# Altium footprint library Conn.Misc.PcbLib: 57 footprints (part 1 of 4)
Each footprint in its own frame and in the unit in brackets; x right, y up, seen from the top. Pads: shape width x height; smd on the part's side, far side on the other; paste and mask are expansions set on the pad; w line width, h text height; cw(c..) or ccw(c..) is an arc to the next point about the centre after c.
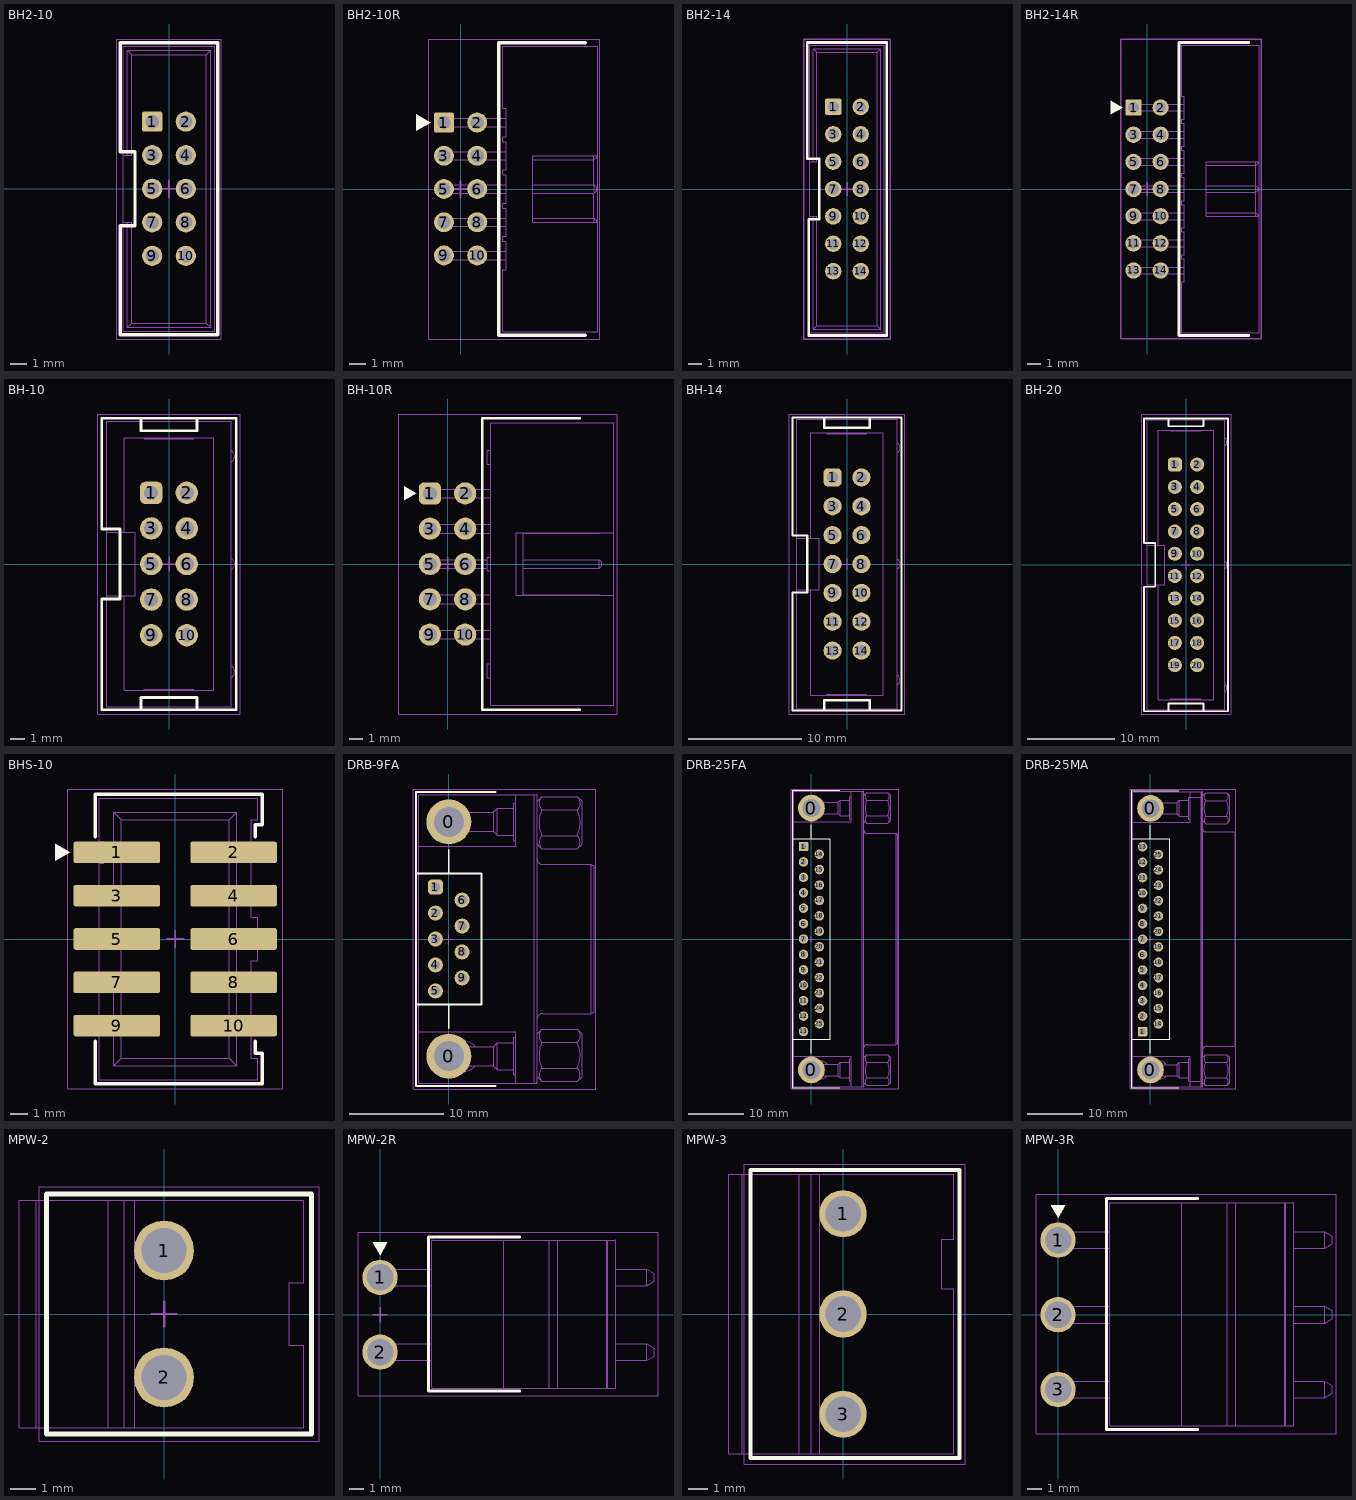
[diagram p0: the footprints below, top view; thin cyan lines are the x and y axes]

## BH2-10 [mm] "BH2 Header, 10-Pin, 2.00mm Pitch"
height 5.7
pads (10):
  rrect20% 1.2x1.2 hole 0.8: 1(-1,4)
  round 1.2 hole 0.8: 2(1,4) 3(-1,2) 4(1,2) 5(-1,0) 6(1,0) 7(-1,-2) 8(1,-2) 9(-1,-4) 10(1,-4)
Top Overlay:
  lines w0.2: -2.9,-8.7 2.9,-8.7 2.9,8.7 -2.9,8.7 -2.9,2.2 -2.025,2.2 -2.025,-2.2 -2.9,-2.2 -2.9,-8.7
Bottom Overlay:
  region: -1.8,4 -2.666,3.5 -2.666,4.5
Mechanical 1:
  lines w0.05: -2.725,-2 -2.225,-2 -2.225,-8 ; -2.725,2 -2.225,2 -2.225,8 ; -2.475,-2 -2.475,-8.25 ; -2.475,2 -2.475,8.25 ; -2.475,-8.25 2.475,-8.25 ; -2.475,-8.25 -2.225,-8 ; -2.475,8.25 -2.225,8 ; -2.475,8.25 2.475,8.25 ; -2.225,-8 2.225,-8 ; -2.225,8 2.225,8 ; -1.25,-4.25 -1.25,-3.75 ; -1.25,-4.25 -1.1,-4.1 ; -1.25,-4.25 -0.75,-4.25 ; -1.25,-3.75 -1.1,-3.9 ; -1.25,-3.75 -0.75,-3.75 ; -1.25,-2.25 -0.75,-2.25 ; -1.25,-2.25 -1.25,-1.75 ; -1.25,-2.25 -1.1,-2.1 ; -1.25,-1.75 -0.75,-1.75 ; -1.25,-1.75 -1.1,-1.9 ; -1.25,-0.25 -0.75,-0.25 ; -1.25,-0.25 -1.25,0.25 ; -1.25,-0.25 -1.1,-0.1 ; -1.25,0.25 -0.75,0.25 ; -1.25,0.25 -1.1,0.1 ; -1.25,1.75 -1.25,2.25 ; -1.25,1.75 -1.1,1.9 ; -1.25,1.75 -0.75,1.75 ; -1.25,2.25 -0.75,2.25 ; -1.25,2.25 -1.1,2.1 ; -1.25,3.75 -0.75,3.75 ; -1.25,3.75 -1.25,4.25 ; -1.25,3.75 -1.1,3.9 ; -1.25,4.25 -1.1,4.1 ; -1.25,4.25 -0.75,4.25 ; -1.1,-4.1 -1.1,-3.9 ; -1.1,-4.1 -0.9,-4.1 ; -1.1,-3.9 -0.9,-3.9 ; -1.1,-2.1 -0.9,-2.1 ; -1.1,-2.1 -1.1,-1.9 ; -1.1,-1.9 -0.9,-1.9 ; -1.1,-0.1 -0.9,-0.1 ; -1.1,-0.1 -1.1,0.1 ; -1.1,0.1 -0.9,0.1 ; -1.1,1.9 -1.1,2.1 ; -1.1,1.9 -0.9,1.9 ; -1.1,2.1 -0.9,2.1 ; -1.1,3.9 -0.9,3.9 ; -1.1,3.9 -1.1,4.1 ; -1.1,4.1 -0.9,4.1 ; -0.9,-4.1 -0.75,-4.25 ; -0.9,-4.1 -0.9,-3.9 ; -0.9,-3.9 -0.75,-3.75 ; -0.9,-2.1 -0.9,-1.9 ; -0.9,-2.1 -0.75,-2.25 ; -0.9,-1.9 -0.75,-1.75 ; -0.9,-0.1 -0.9,0.1 ; -0.9,-0.1 -0.75,-0.25 ; -0.9,0.1 -0.75,0.25 ; -0.9,1.9 -0.9,2.1 ; -0.9,1.9 -0.75,1.75 ; -0.9,2.1 -0.75,2.25 ; -0.9,3.9 -0.9,4.1 ; -0.9,3.9 -0.75,3.75 ; -0.9,4.1 -0.75,4.25 ; -0.75,-4.25 -0.75,-3.75 ; -0.75,-2.25 -0.75,-1.75 ; -0.75,-0.25 -0.75,0.25 ; -0.75,1.75 -0.75,2.25 ; -0.75,3.75 -0.75,4.25 ; 0.75,-4.25 0.75,-3.75 ; 0.75,-4.25 0.9,-4.1 ; 0.75,-4.25 1.25,-4.25 ; 0.75,-3.75 1.25,-3.75 ; 0.75,-3.75 0.9,-3.9 ; 0.75,-2.25 0.75,-1.75 ; 0.75,-2.25 0.9,-2.1 ; 0.75,-2.25 1.25,-2.25 ; 0.75,-1.75 1.25,-1.75 ; 0.75,-1.75 0.9,-1.9 ; 0.75,-0.25 1.25,-0.25 ; 0.75,-0.25 0.75,0.25 ; 0.75,-0.25 0.9,-0.1 ; 0.75,0.25 1.25,0.25 ; 0.75,0.25 0.9,0.1 ; 0.75,1.75 0.75,2.25 ; 0.75,1.75 0.9,1.9 ; 0.75,1.75 1.25,1.75 ; 0.75,2.25 0.9,2.1 ; 0.75,2.25 1.25,2.25 ; 0.75,3.75 1.25,3.75 ; 0.75,3.75 0.75,4.25 ; 0.75,3.75 0.9,3.9 ; 0.75,4.25 1.25,4.25 ; 0.75,4.25 0.9,4.1 ; 0.9,-4.1 0.9,-3.9 ; 0.9,-4.1 1.1,-4.1 ; 0.9,-3.9 1.1,-3.9 ; 0.9,-2.1 0.9,-1.9 ; 0.9,-2.1 1.1,-2.1 ; 0.9,-1.9 1.1,-1.9 ; 0.9,-0.1 0.9,0.1 ; 0.9,-0.1 1.1,-0.1 ; 0.9,0.1 1.1,0.1 ; 0.9,1.9 0.9,2.1 ; 0.9,1.9 1.1,1.9 ; 0.9,2.1 1.1,2.1 ; 0.9,3.9 1.1,3.9 ; 0.9,3.9 0.9,4.1 ; 0.9,4.1 1.1,4.1 ; 1.1,-4.1 1.1,-3.9 ; 1.1,-4.1 1.25,-4.25 ; 1.1,-3.9 1.25,-3.75 ; 1.1,-2.1 1.25,-2.25 ; 1.1,-2.1 1.1,-1.9 ; 1.1,-1.9 1.25,-1.75 ; 1.1,-0.1 1.25,-0.25 ; 1.1,-0.1 1.1,0.1 ; 1.1,0.1 1.25,0.25 ; 1.1,1.9 1.1,2.1 ; 1.1,1.9 1.25,1.75 ; 1.1,2.1 1.25,2.25 ; 1.1,3.9 1.1,4.1 ; 1.1,3.9 1.25,3.75 ; 1.1,4.1 1.25,4.25 ; 1.25,-4.25 1.25,-3.75 ; 1.25,-2.25 1.25,-1.75 ; 1.25,-0.25 1.25,0.25 ; 1.25,1.75 1.25,2.25 ; 1.25,3.75 1.25,4.25 ; 2.225,-8 2.225,8 ; 2.225,-8 2.475,-8.25 ; 2.225,8 2.475,8.25 ; 2.475,-8.25 2.475,8.25 ; -2.725,-8.5 -2.725,8.5 2.725,8.5 2.725,-8.5 -2.725,-8.5
Mechanical 15:
  lines w0.05: -3.125,-8.95 3.125,-8.95 3.125,8.925 -3.125,8.925 -3.125,-8.95
  lines w0.1: -0.5,0 0.5,0 ; 0,-0.5 0,0.5
3D body "BH2-10.STEP": height 5.65, standoff -3.6, extent -2.725,-8.5 2.725,8.5

## BH2-10R [mm] "BH2 Header, 10-Pin, 2.00mm Pitch, Angled"
height 5.6
pads (10):
  rrect20% 1.2x1.2 hole 0.8: 1(-1,4)
  round 1.2 hole 0.8: 2(1,4) 3(-1,2) 4(1,2) 5(-1,0) 6(1,0) 7(-1,-2) 8(1,-2) 9(-1,-4) 10(1,-4)
Top Overlay:
  region: -1.8,4 -2.666,4.5 -2.666,3.5
  lines w0.2: 7.5,-8.8 2.3,-8.8 2.3,8.8 7.5,8.8
Mechanical 1:
  lines w0.05: -0.5,-4.25 -0.5,-3.75 ; -0.5,-2.25 -0.5,-1.75 ; -0.5,-0.25 -0.5,0.25 ; -0.5,1.75 -0.5,2.25 ; -0.5,3.75 -0.5,4.25 ; 2.75,-4.25 -1.25,-4.25 -1.25,-3.75 2.75,-3.75 ; 2.75,-2.25 -1.25,-2.25 -1.25,-1.75 2.75,-1.75 ; 2.75,-0.25 -1.25,-0.25 -1.25,0.25 2.75,0.25 ; 2.75,1.75 -1.25,1.75 -1.25,2.25 2.75,2.25 ; 2.75,3.75 -1.25,3.75 -1.25,4.25 2.75,4.25 ; 4.35,-1.75 8.021,-1.75 ; 4.35,-0.25 8.021,-0.25 ; 4.35,0.25 8.021,0.25 ; 4.35,1.75 8.021,1.75 ; 8,-1.75 8,-0.25 ; 8,0.25 8,1.75 ; 8.021,-2 8.021,-1.75 ; 8.021,2 8.021,1.75 ; 8.2,-2 8.2,-1.9 8.021,-1.75 ; 8.2,2 8.2,1.9 8.021,1.75 ; 8.25,-2 4.35,-2 4.35,2 8.25,2 ; 8.021,-0.25 8.2,-0.1 8.2,0.1 8.021,0.25 ; 8.021,-0.25 8.021,0.25 ; 2.55,-8.6 8.25,-8.6 8.25,8.6 2.55,8.6 2.55,4.85 2.75,4.85 2.75,3.15 2.55,3.15 2.55,2.85 2.75,2.85 2.75,1.15 2.55,1.15 2.55,0.85 2.75,0.85 2.75,-0.85 2.55,-0.85 2.55,-1.15 2.75,-1.15 2.75,-2.85 2.55,-2.85 2.55,-3.15 2.75,-3.15 2.75,-4.85 2.55,-4.85 2.55,-8.6
Mechanical 15:
  lines w0.05: -1.925,-9.025 8.375,-9.025 8.375,9.025 -1.925,9.025 -1.925,-9.025
  lines w0.1: -0.5,0 0.5,0 ; 0,-0.5 0,0.5
3D body "BH2-10R.STEP": height 5.6, standoff -2.9, extent -1.25,-8.6 8.25,8.6

## BH2-14 [mm] "BH2 Header, 14-Pin, 2.00mm Pitch"
height 5.7
pads (14):
  rrect20% 1.2x1.2 hole 0.8: 1(-1,6)
  round 1.2 hole 0.8: 2(1,6) 3(-1,4) 4(1,4) 5(-1,2) 6(1,2) 7(-1,0) 8(1,0) 9(-1,-2) 10(1,-2) 11(-1,-4) 12(1,-4) 13(-1,-6) 14(1,-6)
Top Overlay:
  lines w0.2: -2.9,2.2 -2.9,10.7 2.9,10.7 2.9,-10.7 -2.8,-10.7 -2.8,-2.2 -2.025,-2.2 -2.025,2.2 -2.9,2.2
Bottom Overlay:
  region: -1.8,6 -2.666,5.5 -2.666,6.5
Mechanical 1:
  drawing of 188 lines, arcs and shapes, not listed
Mechanical 15:
  lines w0.1: -0.5,0 0.5,0 ; 0,-0.5 0,0.5 ; -3.15,-10.95 -3.15,10.95 3.15,10.95 3.15,-10.95 -3.15,-10.95
3D body "BH2-14.STEP": height 5.65, standoff -3.6, extent -2.725,-10.5 2.725,10.5

## BH2-14R [mm] "BH2 Header, 14-Pin, 2.00mm Pitch, Angled"
height 5.6
pads (14):
  rrect20% 1.2x1.2 hole 0.8: 1(-1,6)
  round 1.2 hole 0.8: 2(1,6) 3(-1,4) 4(1,4) 5(-1,2) 6(1,2) 7(-1,0) 8(1,0) 9(-1,-2) 10(1,-2) 11(-1,-4) 12(1,-4) 13(-1,-6) 14(1,-6)
Top Overlay:
  region: -1.8,6 -2.666,6.5 -2.666,5.5
  lines w0.2: 7.5,-10.8 2.35,-10.8 2.35,10.8 7.5,10.8
Mechanical 1:
  lines w0.05: -0.5,-6.25 -0.5,-5.75 ; -0.5,-4.25 -0.5,-3.75 ; -0.5,-2.25 -0.5,-1.75 ; -0.5,-0.25 -0.5,0.25 ; -0.5,1.75 -0.5,2.25 ; -0.5,3.75 -0.5,4.25 ; -0.5,5.75 -0.5,6.25 ; 2.75,-6.25 -1.25,-6.25 -1.25,-5.75 2.75,-5.75 ; 2.75,-4.25 -1.25,-4.25 -1.25,-3.75 2.75,-3.75 ; 2.75,-2.25 -1.25,-2.25 -1.25,-1.75 2.75,-1.75 ; 2.75,-0.25 -1.25,-0.25 -1.25,0.25 2.75,0.25 ; 2.75,1.75 -1.25,1.75 -1.25,2.25 2.75,2.25 ; 2.75,3.75 -1.25,3.75 -1.25,4.25 2.75,4.25 ; 2.75,5.75 -1.25,5.75 -1.25,6.25 2.75,6.25 ; 4.35,-1.75 8.021,-1.75 ; 4.35,-0.25 8.021,-0.25 ; 4.35,0.25 8.021,0.25 ; 4.35,1.75 8.021,1.75 ; 8,-1.75 8,-0.25 ; 8,0.25 8,1.75 ; 8.021,-2 8.021,-1.75 ; 8.021,2 8.021,1.75 ; 8.2,-2 8.2,-1.9 8.021,-1.75 ; 8.2,2 8.2,1.9 8.021,1.75 ; 8.25,-2 4.35,-2 4.35,2 8.25,2 ; 8.021,-0.25 8.2,-0.1 8.2,0.1 8.021,0.25 ; 8.021,-0.25 8.021,0.25 ; 2.55,-10.6 2.55,-6.85 2.75,-6.85 2.75,-5.15 2.55,-5.15 2.55,-4.85 2.75,-4.85 2.75,-3.15 2.55,-3.15 2.55,-2.85 2.75,-2.85 2.75,-1.15 2.55,-1.15 2.55,-0.85 2.75,-0.85 2.75,0.85 2.55,0.85 2.55,1.15 2.75,1.15 2.75,2.85 2.55,2.85 2.55,3.15 2.75,3.15 2.75,4.85 2.55,4.85 2.55,5.15 2.75,5.15 2.75,6.85 2.55,6.85 2.55,10.6 8.25,10.6 8.25,-10.6 2.55,-10.6
Mechanical 15:
  lines w0.1: -0.5,0 0.5,0 ; 0,-0.5 0,0.5 ; -1.95,-11.05 -1.95,11.05 8.4,11.05 8.4,-11.05 -1.95,-11.05
3D body "BH2-14R.STEP": height 5.6, standoff -2.9, extent -1.25,-10.6 8.25,10.6

## BH-10 [mm] "BH Header, 10-Pin, 2.54mm Pitch"
height 9.3
pads (10):
  rrect50% 1.6x1.6 hole 1: 1(-1.27,5.08)
  round 1.6 hole 1: 2(1.27,5.08) 3(-1.27,2.54) 4(1.27,2.54) 5(-1.27,0) 6(1.27,0) 7(-1.27,-2.54) 8(1.27,-2.54) 9(-1.27,-5.08) 10(1.27,-5.08)
Top Overlay:
  lines w0.2: -2,-10.4 -2,-9.525 2,-9.525 2,-10.4 ; -2,10.4 -2,9.5 2,9.5 2,10.4 ; -4.8,-10.4 4.8,-10.4 4.8,10.4 -4.8,10.4 -4.8,2.5 -3.5,2.5 -3.5,-2.5 -4.8,-2.5 -4.8,-10.4
Bottom Overlay:
  region: -2.27,5.08 -3.136,4.58 -3.136,5.58
Mechanical 1:
  lines w0.05: -4.425,-2.25 -2.425,-2.25 -2.425,2.25 -4.425,2.25 ; -3.175,-2.25 -3.175,-9.02 3.175,-9.02 3.175,9.02 -3.175,9.02 -3.175,2.25 ; -1.75,-9.02 -1.75,-8.93 1.75,-8.93 1.75,-9.02 ; -1.75,9.02 -1.75,8.93 1.75,8.93 1.75,9.02 ; 4.425,-8.113 ccw(c4.175,-7.68) 4.425,-7.247 ; 4.425,-0.433 ccw(c4.175,0) 4.425,0.433 ; 4.425,7.247 ccw(c4.175,7.68) 4.425,8.113 ; -1.59,-5.4 -0.95,-5.4 ; -1.59,-5.4 -1.59,-4.76 ; -1.59,-5.4 -1.39,-5.2 ; -1.59,-4.76 -0.95,-4.76 ; -1.59,-4.76 -1.39,-4.96 ; -1.59,-2.86 -0.95,-2.86 ; -1.59,-2.86 -1.59,-2.22 ; -1.59,-2.86 -1.39,-2.66 ; -1.59,-2.22 -0.95,-2.22 ; -1.59,-2.22 -1.39,-2.42 ; -1.59,-0.32 -0.95,-0.32 ; -1.59,-0.32 -1.59,0.32 ; -1.59,-0.32 -1.39,-0.12 ; -1.59,0.32 -0.95,0.32 ; -1.59,0.32 -1.39,0.12 ; -1.59,2.22 -1.59,2.86 ; -1.59,2.22 -1.39,2.42 ; -1.59,2.22 -0.95,2.22 ; -1.59,2.86 -0.95,2.86 ; -1.59,2.86 -1.39,2.66 ; -1.59,4.76 -1.59,5.4 ; -1.59,4.76 -1.39,4.96 ; -1.59,4.76 -0.95,4.76 ; -1.59,5.4 -0.95,5.4 ; -1.59,5.4 -1.39,5.2 ; -1.39,-5.2 -1.39,-4.96 ; -1.39,-5.2 -1.15,-5.2 ; -1.39,-4.96 -1.15,-4.96 ; -1.39,-2.66 -1.15,-2.66 ; -1.39,-2.66 -1.39,-2.42 ; -1.39,-2.42 -1.15,-2.42 ; -1.39,-0.12 -1.39,0.12 ; -1.39,-0.12 -1.15,-0.12 ; -1.39,0.12 -1.15,0.12 ; -1.39,2.42 -1.39,2.66 ; -1.39,2.42 -1.15,2.42 ; -1.39,2.66 -1.15,2.66 ; -1.39,4.96 -1.39,5.2 ; -1.39,4.96 -1.15,4.96 ; -1.39,5.2 -1.15,5.2 ; -1.15,-5.2 -0.95,-5.4 ; -1.15,-5.2 -1.15,-4.96 ; -1.15,-4.96 -0.95,-4.76 ; -1.15,-2.66 -0.95,-2.86 ; -1.15,-2.66 -1.15,-2.42 ; -1.15,-2.42 -0.95,-2.22 ; -1.15,-0.12 -0.95,-0.32 ; -1.15,-0.12 -1.15,0.12 ; -1.15,0.12 -0.95,0.32 ; -1.15,2.42 -1.15,2.66 ; -1.15,2.42 -0.95,2.22 ; -1.15,2.66 -0.95,2.86 ; -1.15,4.96 -0.95,4.76 ; -1.15,4.96 -1.15,5.2 ; -1.15,5.2 -0.95,5.4 ; -0.95,-5.4 -0.95,-4.76 ; -0.95,-2.86 -0.95,-2.22 ; -0.95,-0.32 -0.95,0.32 ; -0.95,2.22 -0.95,2.86 ; -0.95,4.76 -0.95,5.4 ; 0.95,-5.4 1.59,-5.4 ; 0.95,-5.4 0.95,-4.76 ; 0.95,-5.4 1.15,-5.2 ; 0.95,-4.76 1.59,-4.76 ; 0.95,-4.76 1.15,-4.96 ; 0.95,-2.86 1.59,-2.86 ; 0.95,-2.86 0.95,-2.22 ; 0.95,-2.86 1.15,-2.66 ; 0.95,-2.22 1.59,-2.22 ; 0.95,-2.22 1.15,-2.42 ; 0.95,-0.32 0.95,0.32 ; 0.95,-0.32 1.15,-0.12 ; 0.95,-0.32 1.59,-0.32 ; 0.95,0.32 1.59,0.32 ; 0.95,0.32 1.15,0.12 ; 0.95,2.22 1.59,2.22 ; 0.95,2.22 0.95,2.86 ; 0.95,2.22 1.15,2.42 ; 0.95,2.86 1.59,2.86 ; 0.95,2.86 1.15,2.66 ; 0.95,4.76 0.95,5.4 ; 0.95,4.76 1.15,4.96 ; 0.95,4.76 1.59,4.76 ; 0.95,5.4 1.59,5.4 ; 0.95,5.4 1.15,5.2 ; 1.15,-5.2 1.15,-4.96 ; 1.15,-5.2 1.39,-5.2 ; 1.15,-4.96 1.39,-4.96 ; 1.15,-2.66 1.39,-2.66 ; 1.15,-2.66 1.15,-2.42 ; 1.15,-2.42 1.39,-2.42 ; 1.15,-0.12 1.39,-0.12 ; 1.15,-0.12 1.15,0.12 ; 1.15,0.12 1.39,0.12 ; 1.15,2.42 1.39,2.42 ; 1.15,2.42 1.15,2.66 ; 1.15,2.66 1.39,2.66 ; 1.15,4.96 1.15,5.2 ; 1.15,4.96 1.39,4.96 ; 1.15,5.2 1.39,5.2 ; 1.39,-5.2 1.39,-4.96 ; 1.39,-5.2 1.59,-5.4 ; 1.39,-4.96 1.59,-4.76 ; 1.39,-2.66 1.59,-2.86 ; 1.39,-2.66 1.39,-2.42 ; 1.39,-2.42 1.59,-2.22 ; 1.39,-0.12 1.59,-0.32 ; 1.39,-0.12 1.39,0.12 ; 1.39,0.12 1.59,0.32 ; 1.39,2.42 1.59,2.22 ; 1.39,2.42 1.39,2.66 ; 1.39,2.66 1.59,2.86 ; 1.39,4.96 1.39,5.2 ; 1.39,4.96 1.59,4.76 ; 1.39,5.2 1.59,5.4 ; 1.59,-5.4 1.59,-4.76 ; 1.59,-2.86 1.59,-2.22 ; 1.59,-0.32 1.59,0.32 ; 1.59,2.22 1.59,2.86 ; 1.59,4.76 1.59,5.4 ; -4.425,-10.18 -4.425,10.18 4.425,10.18 4.425,-10.18 -4.425,-10.18
Mechanical 15:
  lines w0.05: -5.1,-10.7 5.1,-10.7 5.1,10.7 -5.1,10.7 -5.1,-10.7
  lines w0.1: -0.5,0 0.5,0 ; 0,-0.5 0,0.5
3D body "IDC-Header_2x05_P2.54mm_Vertical.step": height 9.1, standoff -3, extent -4.425,-10.18 4.675,10.18

## BH-10R [mm] "BH Header, 10-Pin, 2.54mm Pitch, Right Angle"
height 9.1
pads (10):
  rrect50% 1.6x1.6 hole 1: 1(-1.27,5.08)
  round 1.6 hole 1: 2(1.27,5.08) 3(-1.27,2.54) 4(1.27,2.54) 5(-1.27,0) 6(1.27,0) 7(-1.27,-2.54) 8(1.27,-2.54) 9(-1.27,-5.08) 10(1.27,-5.08)
Top Overlay:
  region: -2.27,5.08 -3.136,5.58 -3.136,4.58
  lines w0.2: 9.5,-10.5 2.5,-10.5 2.5,10.5 9.5,10.5
Mechanical 1:
  lines w0.05: -0.95,-5.4 -0.95,-4.76 ; -0.95,-2.86 -0.95,-2.22 ; -0.95,-0.32 -0.95,0.32 ; -0.95,2.22 -0.95,2.86 ; -0.95,4.76 -0.95,5.4 ; 2.86,-0.32 -1.59,-0.32 -1.59,0.32 2.86,0.32 ; 3.11,-8.18 2.86,-8.18 2.86,-7.18 3.11,-7.18 ; 3.11,-5.4 -1.59,-5.4 -1.59,-4.76 3.11,-4.76 ; 3.11,-2.86 -1.59,-2.86 -1.59,-2.22 3.11,-2.22 ; 3.11,-0.5 2.86,-0.5 2.86,0.5 3.11,0.5 ; 3.11,2.22 -1.59,2.22 -1.59,2.86 3.11,2.86 ; 3.11,4.76 -1.59,4.76 -1.59,5.4 3.11,5.4 ; 3.11,7.18 2.86,7.18 2.86,8.18 3.11,8.18 ; 5.46,-2.25 5.46,2.25 ; 5.46,-2.22 10.91,-2.22 ; 5.46,-0.32 10.91,-0.32 ; 5.46,0.32 10.91,0.32 ; 5.46,2.22 10.91,2.22 ; 10.91,-2.25 10.91,-2.22 ; 10.91,2.25 10.91,2.22 ; 10.94,-2.25 10.91,-2.22 ; 10.94,2.25 10.91,2.22 ; 11.96,-2.25 4.96,-2.25 4.96,2.25 11.96,2.25 ; 10.91,-0.32 11.11,-0.12 11.11,0.12 10.91,0.32 ; 10.91,-0.32 10.91,0.32 ; 3.11,-10.18 3.11,10.18 11.96,10.18 11.96,-10.18 3.11,-10.18
Mechanical 15:
  lines w0.05: -3.5,-10.8 -3.5,10.8 12.2,10.8 12.2,-10.8 -3.5,-10.8
  lines w0.1: -0.5,0 0.5,0 ; 0,-0.5 0,0.5
3D body "IDC-Header_2x05_P2.54mm_Horizontal.step": height 9.1, standoff -3, extent -1.59,-10.18 11.96,10.18

## BH-14 [mm] "BH Header, 14-Pin, 2.54mm Pitch"
height 9.3
pads (14):
  rrect50% 1.6x1.6 hole 1: 1(-1.27,7.62)
  round 1.6 hole 1: 2(1.27,7.62) 3(-1.27,5.08) 4(1.27,5.08) 5(-1.27,2.54) 6(1.27,2.54) 7(-1.27,0) 8(1.27,0) 9(-1.27,-2.54) 10(1.27,-2.54) 11(-1.27,-5.08) 12(1.27,-5.08) 13(-1.27,-7.62) 14(1.27,-7.62)
Top Overlay:
  lines w0.2: -2,-12.9 -2,-12 2,-12 2,-12.9 ; -2,12.9 -2,12 2,12 2,12.9 ; -4.8,-12.9 4.8,-12.9 4.8,12.9 -4.8,12.9 -4.8,2.5 -3.5,2.5 -3.5,-2.5 -4.8,-2.5 -4.8,-12.9
Bottom Overlay:
  region: -2.27,7.62 -3.136,7.12 -3.136,8.12
Mechanical 1:
  drawing of 189 lines, arcs and shapes, not listed
Mechanical 15:
  lines w0.05: -5.1,-13.2 -5.1,13.2 5.1,13.2 5.1,-13.2 -5.1,-13.2
  lines w0.1: -0.5,0 0.5,0 ; 0,-0.5 0,0.5
3D body "IDC-Header_2x07_P2.54mm_Vertical.step": height 9.1, standoff -3, extent -4.425,-12.72 4.675,12.72

## BH-20 [mm] "BH Header, 20-Pin, 2.54mm Pitch"
height 9.3
pads (20):
  rrect50% 1.6x1.6 hole 1: 1(-1.27,11.43)
  round 1.6 hole 1: 2(1.27,11.43) 3(-1.27,8.89) 4(1.27,8.89) 5(-1.27,6.35) 6(1.27,6.35) 7(-1.27,3.81) 8(1.27,3.81) 9(-1.27,1.27) 10(1.27,1.27) 11(-1.27,-1.27) 12(1.27,-1.27) 13(-1.27,-3.81) 14(1.27,-3.81) 15(-1.27,-6.35) 16(1.27,-6.35) 17(-1.27,-8.89) 18(1.27,-8.89) 19(-1.27,-11.43) 20(1.27,-11.43)
Top Overlay:
  lines w0.2: -2,-16.7 -2,-15.8 2,-15.8 2,-16.7 ; -2,16.7 -2,15.8 2,15.8 2,16.7 ; -4.8,-16.7 -4.8,-2.5 -3.5,-2.5 -3.5,2.5 -4.8,2.5 -4.8,16.7 4.8,16.7 4.8,-16.7 -4.8,-16.7
Bottom Overlay:
  region: -2.27,11.43 -3.136,10.93 -3.136,11.93
Mechanical 1:
  drawing of 261 lines, arcs and shapes, not listed
Mechanical 15:
  lines w0.1: -0.5,0 0.5,0 ; 0,-0.5 0,0.5 ; -5.1,-17 -5.1,17.2 5.1,17.2 5.1,-17 -5.1,-17
3D body "IDC-Header_2x10_P2.54mm_Vertical.step": height 9.12, standoff -2.98, extent -4.425,-16.53 4.675,16.53

## BHS-10 [mil] "BH Header, 10-Pin, 2.54mm Pitch, Surface Mount"
height 400
pads (10):
  rrect20% 200x50 smd: 1(-135,200) 2(135,200) 3(-135,100) 4(135,100) 5(-135,0) 6(135,0) 7(-135,-100) 8(135,-100) 9(-135,-200) 10(135,-200)
Top Overlay:
  region: -242.87,200 -276.97,219.69 -276.97,180.31
  lines w7.87: -185.04,-236.22 -185.04,-334.65 200.79,-334.65 200.79,-263.78 185.04,-263.78 185.04,-236.22 ; -185.04,236.22 -185.04,334.65 200.79,334.65 200.79,263.78 185.04,263.78 185.04,236.22
Mechanical 1:
  lines w1.97: -213.75,-212.5 -213.75,-187.5 ; -213.75,-112.5 -213.75,-87.5 ; -213.75,-12.5 -213.75,12.5 ; -213.75,87.5 -213.75,112.5 ; -213.75,187.5 -213.75,212.5 ; -175,-212.5 -220,-212.5 -220,-187.5 -175,-187.5 ; -175,-112.5 -220,-112.5 -220,-87.5 -175,-87.5 ; -175,-100 -125,-100 ; -175,-12.5 -220,-12.5 -220,12.5 -175,12.5 ; -175,87.5 -220,87.5 -220,112.5 -175,112.5 ; -175,100 -125,100 ; -175,175 -165,175 -165,225 -175,225 ; -175,187.5 -220,187.5 -220,212.5 -175,212.5 ; -175,200 -165,200 ; -142.51,-100 -142.51,-292.51 ; -142.51,100 -142.51,292.51 ; -56.25,-212.5 -56.25,-187.5 ; -56.25,-112.5 -56.25,-87.5 ; -56.25,-12.5 -56.25,12.5 ; -56.25,87.5 -56.25,112.5 ; -56.25,187.5 -56.25,212.5 ; -43.75,-212.5 -43.75,-187.5 ; -43.75,-112.5 -43.75,-87.5 ; -43.75,-12.5 -43.75,12.5 ; -43.75,87.5 -43.75,112.5 ; -43.75,187.5 -43.75,212.5 ; 43.75,-212.5 43.75,-187.5 ; 43.75,-112.5 43.75,-87.5 ; 43.75,-12.5 43.75,12.5 ; 43.75,87.5 43.75,112.5 ; 43.75,187.5 43.75,212.5 ; 56.25,-212.5 56.25,-187.5 ; 56.25,-112.5 56.25,-87.5 ; 56.25,-12.5 56.25,12.5 ; 56.25,87.5 56.25,112.5 ; 56.25,187.5 56.25,212.5 ; 175,-212.5 220,-212.5 220,-187.5 175,-187.5 ; 175,-112.5 220,-112.5 220,-87.5 175,-87.5 ; 175,87.5 220,87.5 220,112.5 175,112.5 ; 175,187.5 220,187.5 220,212.5 175,212.5 ; 190,-12.5 220,-12.5 220,12.5 190,12.5 ; 213.75,-212.5 213.75,-187.5 ; 213.75,-112.5 213.75,-87.5 ; 213.75,-12.5 213.75,12.5 ; 213.75,87.5 213.75,112.5 ; 213.75,187.5 213.75,212.5 ; -142.51,-292.51 -125,-275 ; -142.51,-292.51 142.51,-292.51 ; -142.51,292.51 -125,275 ; -142.51,292.51 142.51,292.51 ; -125,-275 125,-275 ; -125,-275 -125,275 ; -125,275 125,275 ; 125,-275 125,275 ; 125,-275 142.51,-292.51 ; 125,275 142.51,292.51 ; 142.51,-292.51 142.51,292.51 ; -175,-325 -175,325 190,325 190,275 175,275 175,50 190,50 190,-50 175,-50 175,-275 190,-275 190,-325 -175,-325 ; -62.5,-212.5 -62.5,-187.5 -37.5,-187.5 -37.5,-212.5 -62.5,-212.5 ; -62.5,-112.5 -62.5,-87.5 -37.5,-87.5 -37.5,-112.5 -62.5,-112.5 ; -62.5,-12.5 -62.5,12.5 -37.5,12.5 -37.5,-12.5 -62.5,-12.5 ; -62.5,87.5 -62.5,112.5 -37.5,112.5 -37.5,87.5 -62.5,87.5 ; -62.5,187.5 -37.5,187.5 -37.5,212.5 -62.5,212.5 -62.5,187.5 ; 37.5,-212.5 37.5,-187.5 62.5,-187.5 62.5,-212.5 37.5,-212.5 ; 37.5,-112.5 37.5,-87.5 62.5,-87.5 62.5,-112.5 37.5,-112.5 ; 37.5,-12.5 37.5,12.5 62.5,12.5 62.5,-12.5 37.5,-12.5 ; 37.5,87.5 37.5,112.5 62.5,112.5 62.5,87.5 37.5,87.5 ; 37.5,187.5 37.5,212.5 62.5,212.5 62.5,187.5 37.5,187.5
Mechanical 15:
  lines w1.97: -248.03,-346.46 248.03,-346.46 248.03,346.46 -248.03,346.46 -248.03,-346.46
  lines w3.94: -19.68,0 19.68,0 ; 0,-19.68 0,19.68
3D body "BHS-10.STEP": height 400, standoff 0, extent -220,-325 220,325

## DRB-9FA [mm] "D-Sub Socket, 9-Leads, 9.52mm Offset"
height 12.5
pads (11):
  round 4.8 hole 3.2: 0(0,-12.495) 0(0,12.495)
  rrect50% 1.6x1.6 hole 1: 1(-1.42,5.54)
  round 1.6 hole 1: 2(-1.42,2.77) 3(-1.42,0) 4(-1.42,-2.77) 5(-1.42,-5.54) 6(1.42,4.155) 7(1.42,1.385) 8(1.42,-1.385) 9(1.42,-4.155)
Top Overlay:
  lines w0.2: -3.5,7 3.5,7 3.5,-7 -3.4,-7 ; 0,-9.505 0,-7.005 ; 0,7 0,9.5 ; 5,-15.7 -3.5,-15.7 -3.5,15.7 5,15.7
Bottom Overlay:
  region: -1.42,6.59 -1.92,7.456 -0.92,7.456
Mechanical 1:
  lines w0.05: -3.22,-9.9 7.12,-9.9 7.12,-15.4 ; -3.22,9.9 7.12,9.9 7.12,15.4 ; 0,-13.5 0,-11.5 ; 0,11.5 0,13.5 ; 1.6,11.5 1.6,10.9 0,10.9 cw(c0,12.5) 0,14.1 1.6,14.1 1.6,13.5 ; 2.849,-13.5 cw(c1.6,-12.5) 1.6,-14.1 0,-14.1 cw(c0,-12.5) 0,-10.9 1.6,-10.9 cw(c1.6,-12.5) 2.849,-11.5 ; 4.82,-13.5 -0.1,-13.5 -0.1,-11.5 4.82,-11.5 ; 4.82,11.5 -0.1,11.5 -0.1,13.5 4.82,13.5 ; 6.92,-13.922 5.172,-13.922 ; 6.92,-11.078 5.172,-11.078 ; 6.92,11.078 5.172,11.078 ; 6.92,13.922 5.172,13.922 ; 7.12,-14.5 6.92,-14.5 6.92,-10.5 7.12,-10.5 ; 7.12,10.5 6.92,10.5 6.92,14.5 7.12,14.5 ; 9.12,-15.4 9.12,15.4 ; 9.42,-14.671 9.922,-15.174 cw(c10.615,-14.478) 9.92,-13.786 ; 9.42,-10.129 9.922,-9.626 ; 9.42,-8.559 cw(c10.02,-8.559) 10.02,-7.959 15.17,-7.959 15.22,-7.909 15.22,7.909 15.17,7.959 10.02,7.959 cw(c10.02,8.559) 9.42,8.559 ; 9.42,10.129 9.922,9.626 cw(c10.615,10.322) 9.92,11.014 ; 9.42,14.671 9.922,15.174 ; 9.92,-15.171 13.72,-15.171 ; 9.92,9.629 13.72,9.629 ; 13.718,-9.626 14.22,-10.129 14.22,-14.671 13.718,-15.174 ccw(c13.025,-14.478) 13.72,-13.786 ; 13.718,15.174 14.22,14.671 14.22,10.129 13.718,9.626 ccw(c13.025,10.322) 13.72,11.014 ; 15.22,-7.854 15.42,-7.854 15.52,-7.754 15.52,7.754 15.42,7.854 15.22,7.854 ; 5.172,-13.922 4.82,-13.57 4.82,-11.43 5.172,-11.078 ; 5.172,-13.922 5.172,-11.078 ; 5.172,11.078 4.82,11.43 4.82,13.57 5.172,13.922 ; 5.172,11.078 5.172,13.922 ; 9.92,-13.786 cw(c13.028,-12.4) 9.92,-11.014 ; 9.92,-13.786 13.72,-13.786 ; 9.92,-11.014 cw(c10.585,-10.322) 9.92,-9.629 13.72,-9.629 cw(c13.055,-10.322) 13.72,-11.014 ; 9.92,-11.014 13.72,-11.014 ; 9.92,11.014 cw(c13.028,12.4) 9.92,13.786 ; 9.92,11.014 13.72,11.014 ; 9.92,13.786 cw(c10.585,14.478) 9.92,15.171 13.72,15.171 cw(c13.055,14.478) 13.72,13.786 ; 9.92,13.786 13.72,13.786 ; 13.72,-13.786 ccw(c10.612,-12.4) 13.72,-11.014 ; 13.72,11.014 ccw(c10.612,12.4) 13.72,13.786 ; -3.22,-15.4 9.32,-15.4 ccw(c9.32,-15.3) 9.42,-15.3 9.42,15.3 ccw(c9.32,15.3) 9.32,15.4 -3.22,15.4 -3.22,-15.4
Mechanical 15:
  lines w0.05: -3.8,-16 15.7,-16 15.7,16 -3.8,16 -3.8,-16
  lines w0.1: -0.5,0 0.5,0 ; 0,-0.6 0,0.5
3D body "DRB-9FA.STEP": height 12.5, standoff -5.4, extent -3.22,-15.4 15.52,15.4

## DRB-25FA [mm] "D-Sub Socket, 25-Leads, 9.52mm Offset"
height 12.5
pads (27):
  round 4.8 hole 3.2: 0(0,-23.526) 0(0,23.526)
  rrect20% 1.7x1.7 hole 1.1: 1(-1.42,16.62)
  round 1.7 hole 1.1: 2(-1.42,13.85) 3(-1.42,11.08) 4(-1.42,8.31) 5(-1.42,5.54) 6(-1.42,2.77) 7(-1.42,0) 8(-1.42,-2.77) 9(-1.42,-5.54) 10(-1.42,-8.31) 11(-1.42,-11.08) 12(-1.42,-13.85) 13(-1.42,-16.62) 14(1.42,15.235) 15(1.42,12.465) 16(1.42,9.695) 17(1.42,6.925) 18(1.42,4.155) 19(1.42,1.385) 20(1.42,-1.385) 21(1.42,-4.155) 22(1.42,-6.925) 23(1.42,-9.695) 24(1.42,-12.465) 25(1.42,-15.235)
Top Overlay:
  lines w0.2: -3.425,-18.031 3.425,-18.031 3.425,18.031 -3.425,18.031 ; 0,-20.531 0,-18.031 ; 0,18.031 0,20.531 ; 5.075,-26.7 -3.425,-26.7 -3.425,26.7 5.075,26.7
Bottom Overlay:
  region: -1.42,17.67 -1.92,18.536 -0.92,18.536
Mechanical 1:
  lines w0.05: -3.22,-21.05 7.12,-21.05 7.12,-26.55 ; -3.22,21.05 7.12,21.05 7.12,26.55 ; 0,-24.55 0,-22.55 ; 0,22.55 0,24.55 ; 1.6,22.55 1.6,21.95 0,21.95 cw(c0,23.55) 0,25.15 1.6,25.15 1.6,24.55 ; 2.849,-24.55 cw(c1.6,-23.55) 1.6,-25.15 0,-25.15 cw(c0,-23.55) 0,-21.95 1.6,-21.95 cw(c1.6,-23.55) 2.849,-22.55 ; 4.82,-24.55 -0.1,-24.55 -0.1,-22.55 4.82,-22.55 ; 4.82,22.55 -0.1,22.55 -0.1,24.55 4.82,24.55 ; 6.92,-24.972 5.172,-24.972 ; 6.92,-22.127 5.172,-22.127 ; 6.92,22.128 5.172,22.128 ; 6.92,24.973 5.172,24.973 ; 7.12,-25.55 6.92,-25.55 6.92,-21.55 7.12,-21.55 ; 7.12,21.55 6.92,21.55 6.92,25.55 7.12,25.55 ; 9.12,-26.55 9.12,26.55 ; 9.42,-25.821 9.922,-26.324 cw(c10.615,-25.628) 9.92,-24.936 ; 9.42,-21.279 9.922,-20.776 ; 9.42,-19.559 cw(c10.02,-19.559) 10.02,-18.959 15.17,-18.959 15.22,-18.909 15.22,18.91 15.17,18.96 10.02,18.96 cw(c10.02,19.56) 9.42,19.56 ; 9.42,21.279 9.922,20.776 cw(c10.615,21.472) 9.92,22.164 ; 9.42,25.821 9.922,26.324 ; 9.92,-26.321 13.72,-26.321 ; 9.92,20.779 13.72,20.779 ; 13.717,-20.776 14.22,-21.279 14.22,-25.821 13.717,-26.324 ccw(c13.025,-25.628) 13.72,-24.936 ; 13.717,26.324 14.22,25.821 14.22,21.279 13.717,20.776 ccw(c13.025,21.472) 13.72,22.164 ; 15.22,-18.854 15.42,-18.854 15.52,-18.754 15.52,18.754 15.42,18.854 15.22,18.854 ; 5.172,-24.972 4.82,-24.62 4.82,-22.48 5.172,-22.127 ; 5.172,-24.972 5.172,-22.127 ; 5.172,22.128 4.82,22.48 4.82,24.62 5.172,24.973 ; 5.172,22.128 5.172,24.973 ; 9.92,-24.936 cw(c13.028,-23.55) 9.92,-22.164 ; 9.92,-24.936 13.72,-24.936 ; 9.92,-22.164 cw(c10.585,-21.471) 9.92,-20.779 13.72,-20.779 cw(c13.055,-21.471) 13.72,-22.164 ; 9.92,-22.164 13.72,-22.164 ; 9.92,22.164 cw(c13.028,23.55) 9.92,24.936 ; 9.92,22.164 13.72,22.164 ; 9.92,24.936 cw(c10.585,25.629) 9.92,26.321 13.72,26.321 cw(c13.055,25.629) 13.72,24.936 ; 9.92,24.936 13.72,24.936 ; 13.72,-24.936 ccw(c10.612,-23.55) 13.72,-22.164 ; 13.72,22.164 ccw(c10.612,23.55) 13.72,24.936 ; -3.22,-26.55 9.32,-26.55 ccw(c9.32,-26.45) 9.42,-26.45 9.42,26.45 ccw(c9.32,26.45) 9.32,26.55 -3.22,26.55 -3.22,-26.55
Mechanical 15:
  lines w0.05: -3.65,-26.9 15.6,-26.9 15.6,26.9 -3.65,26.9 -3.65,-26.9
  lines w0.1: -0.5,0 0.5,0 ; 0,-0.5 0,0.5
3D body "DRB-25F.STEP": height 12.5, standoff -5.4, extent -3.22,-26.55 15.52,26.55

## DRB-25MA [mm] "D-Sub Header, 25-Leads, 9.52mm Offset"
height 12.5
pads (27):
  round 4.8 hole 3.2: 0(0,-23.526) 0(0,23.526)
  rrect20% 1.7x1.7 hole 1.1: 1(-1.42,-16.62)
  round 1.7 hole 1.1: 2(-1.42,-13.85) 3(-1.42,-11.08) 4(-1.42,-8.31) 5(-1.42,-5.54) 6(-1.42,-2.77) 7(-1.42,0) 8(-1.42,2.77) 9(-1.42,5.54) 10(-1.42,8.31) 11(-1.42,11.08) 12(-1.42,13.85) 13(-1.42,16.62) 14(1.42,-15.235) 15(1.42,-12.465) 16(1.42,-9.695) 17(1.42,-6.925) 18(1.42,-4.155) 19(1.42,-1.385) 20(1.42,1.385) 21(1.42,4.155) 22(1.42,6.925) 23(1.42,9.695) 24(1.42,12.465) 25(1.42,15.235)
Top Overlay:
  lines w0.2: -3.425,-18.031 3.425,-18.031 3.425,18.031 -3.425,18.031 ; -3.425,26.7 5.075,26.7 ; -3.425,26.8 -3.425,-26.7 5.075,-26.7 ; 0,-20.531 0,-18.031 ; 0,18.031 0,20.531
Bottom Overlay:
  region: -1.42,-17.67 -1.92,-18.536 -0.92,-18.536
Mechanical 1:
  lines w0.05: -3.22,-21.05 7.12,-21.05 7.12,-26.55 ; -3.22,21.05 7.12,21.05 7.12,26.55 ; 0,-24.55 0,-22.55 ; 0,22.55 0,24.55 ; 1.6,22.55 1.6,21.95 0,21.95 cw(c0,23.55) 0,25.15 1.6,25.15 1.6,24.55 ; 2.849,-24.55 cw(c1.6,-23.55) 1.6,-25.15 0,-25.15 cw(c0,-23.55) 0,-21.95 1.6,-21.95 cw(c1.6,-23.55) 2.849,-22.55 ; 4.82,-24.55 -0.1,-24.55 -0.1,-22.55 4.82,-22.55 ; 4.82,22.55 -0.1,22.55 -0.1,24.55 4.82,24.55 ; 6.92,-24.972 5.172,-24.972 ; 6.92,-22.127 5.172,-22.127 ; 6.92,22.128 5.172,22.128 ; 6.92,24.973 5.172,24.973 ; 7.12,-21.55 6.92,-21.55 6.92,-25.55 9.42,-25.55 ; 7.12,21.55 6.92,21.55 6.92,25.55 9.42,25.55 ; 9.12,-26.55 9.12,26.55 ; 9.42,-25.821 9.922,-26.324 cw(c10.615,-25.628) 9.92,-24.936 ; 9.42,-21.279 9.922,-20.776 ; 9.42,-19.889 cw(c10.02,-19.889) 10.02,-19.289 15.17,-19.289 15.22,-19.239 15.22,19.24 15.17,19.29 10.02,19.29 cw(c10.02,19.89) 9.42,19.89 ; 9.42,21.279 9.922,20.776 cw(c10.615,21.472) 9.92,22.164 ; 9.42,25.821 9.922,26.324 ; 9.92,-26.321 13.72,-26.321 ; 9.92,20.779 13.72,20.779 ; 13.717,-20.776 14.22,-21.279 14.22,-25.821 13.717,-26.324 ccw(c13.025,-25.628) 13.72,-24.936 ; 13.717,26.324 14.22,25.821 14.22,21.279 13.717,20.776 ccw(c13.025,21.472) 13.72,22.164 ; 5.172,-24.972 4.82,-24.62 4.82,-22.48 5.172,-22.127 ; 5.172,-24.972 5.172,-22.127 ; 5.172,22.128 4.82,22.48 4.82,24.62 5.172,24.973 ; 5.172,22.128 5.172,24.973 ; 9.32,-26.55 ccw(c9.32,-26.45) 9.42,-26.45 9.42,26.45 ccw(c9.32,26.45) 9.32,26.55 ; 9.32,-26.55 9.32,26.55 ; 9.32,-26.55 -3.22,-26.55 -3.22,26.55 9.32,26.55 ; 9.92,-24.936 cw(c13.028,-23.55) 9.92,-22.164 ; 9.92,-24.936 13.72,-24.936 ; 9.92,-22.164 cw(c10.585,-21.471) 9.92,-20.779 13.72,-20.779 cw(c13.055,-21.471) 13.72,-22.164 ; 9.92,-22.164 13.72,-22.164 ; 9.92,22.164 cw(c13.028,23.55) 9.92,24.936 ; 9.92,22.164 13.72,22.164 ; 9.92,24.936 cw(c10.585,25.629) 9.92,26.321 13.72,26.321 cw(c13.055,25.629) 13.72,24.936 ; 9.92,24.936 13.72,24.936 ; 13.72,-24.936 ccw(c10.612,-23.55) 13.72,-22.164 ; 13.72,22.164 ccw(c10.612,23.55) 13.72,24.936
Mechanical 15:
  lines w0.05: -3.65,-26.925 15.3,-26.925 15.3,27.025 -3.65,27.025 -3.65,-26.925
  lines w0.1: -0.5,0 0.5,0 ; 0,-0.5 0,0.5
3D body "DRB-25M.STEP": height 12.5, standoff -5.4, extent -3.22,-26.55 15.22,26.55

## MPW-2 [mm] "MPW Header, 2-Pin, 5.08 PItch"
height 17.5
pads (2):
  round 2.4 hole 1.8: 1(0,2.54) 2(0,-2.54)
Top Overlay:
  lines w0.2: -4.7,-4.8 -4.7,4.8 5.9,4.8 5.9,-4.8 -4.7,-4.8
Bottom Overlay:
  region: 0,4.05 0.5,4.916 -0.5,4.916
Mechanical 1:
  lines w0.05: -5.11,-4.54 -5.11,4.54 ; -2.221,-4.54 -2.221,4.54 ; -1.6,-4.54 -1.6,4.54 ; -1.169,-4.54 -1.169,4.54 ; -0.57,-3.11 0.57,-3.11 ; -0.57,-3.11 -0.279,-2.819 ; -0.57,-3.11 -0.57,-1.97 ; -0.57,-1.97 0.57,-1.97 ; -0.57,-1.97 -0.279,-2.261 ; -0.57,1.97 0.57,1.97 ; -0.57,1.97 -0.279,2.261 ; -0.57,1.97 -0.57,3.11 ; -0.57,3.11 -0.279,2.819 ; -0.57,3.11 0.57,3.11 ; -0.279,-2.819 0.279,-2.819 ; -0.279,-2.819 -0.279,-2.261 ; -0.279,-2.261 0.279,-2.261 ; -0.279,2.261 0.279,2.261 ; -0.279,2.261 -0.279,2.819 ; -0.279,2.819 0.279,2.819 ; 0.279,-2.819 0.57,-3.11 ; 0.279,-2.819 0.279,-2.261 ; 0.279,-2.261 0.57,-1.97 ; 0.279,2.261 0.57,1.97 ; 0.279,2.261 0.279,2.819 ; 0.279,2.819 0.57,3.11 ; 0.57,-3.11 0.57,-1.97 ; 0.57,1.97 0.57,3.11 ; -5.8,-4.54 -5.8,4.54 5.6,4.54 5.6,1.25 5,1.25 5,-1.25 5.6,-1.25 5.6,-4.54 -5.8,-4.54
Mechanical 15:
  lines w0.05: -5,-5.1 6.2,-5.1 6.2,5.1 -5,5.1 -5,-5.1
  lines w0.1: -0.5,0 0.5,0 ; 0,-0.5 0,0.5
3D body "SPOX 01032-1021.STEP": height 13.85, standoff -3.6, extent -5.8,-4.54 5.6,4.54

## MPW-2R [mm] "MPW Header, 2-Pin, 5.08 PItch, Right Angle"
height 9.6
pads (2):
  round 2.4 hole 1.8: 1(0,2.54) 2(0,-2.54)
Top Overlay:
  region: 0,4.05 -0.5,4.916 0.5,4.916
  lines w0.2: 9.5,-5.2 3.3,-5.2 3.3,5.3 9.5,5.3
Mechanical 1:
  lines w0.05: 3.5,-3.11 1.5,-3.11 -0.54,-3.11 cw(c-0.54,-3.08) -0.57,-3.08 -0.57,-2 cw(c-0.54,-2) -0.54,-1.97 3.5,-1.97 ; 3.5,1.97 1.5,1.97 -0.54,1.97 cw(c-0.54,2) -0.57,2 -0.57,3.08 cw(c-0.54,3.08) -0.54,3.11 3.5,3.11 ; 8.4,-5 8.4,5.08 ; 11.513,-5 11.513,5.08 ; 12.072,-5 12.072,5.08 ; 15.398,-5 15.398,5.08 ; 15.474,-5 15.474,5.08 ; 16.026,-3.11 18.131,-3.11 ; 16.026,-1.97 18.131,-1.97 ; 16.026,1.97 18.131,1.97 ; 16.026,3.11 18.131,3.11 ; 18.131,-3.11 18.131,-1.97 ; 18.131,-3.11 18.65,-2.81 18.65,-2.27 18.131,-1.97 ; 18.131,1.97 18.131,3.11 ; 18.131,1.97 18.65,2.27 18.65,2.81 18.131,3.11 ; 3.5,-4.945 ccw(c3.555,-4.945) 3.555,-5 15.971,-5 ccw(c15.971,-4.945) 16.026,-4.945 16.026,5.025 ccw(c15.971,5.025) 15.971,5.08 3.555,5.08 ccw(c3.555,5.025) 3.5,5.025 3.5,-4.945
Mechanical 15:
  lines w0.05: -1.5,-5.5 -1.5,5.6 18.9,5.6 18.9,-5.5 -1.5,-5.5
  lines w0.1: -0.5,0 0.5,0 ; 0,-0.5 0,0.5
3D body "CI5502P1H00.STEP": height 9.6, standoff -3.6, extent -0.57,-5 18.65,5.08

## MPW-3 [mm] "MPW Header, 3-Pin, 5.08 PItch"
height 17.5
pads (3):
  round 2.4 hole 1.8: 1(0,5.08) 2(0,0) 3(0,-5.08)
Top Overlay:
  lines w0.2: -4.7,-7.3 5.9,-7.3 5.9,7.3 -4.7,7.3 -4.7,-7.3
Bottom Overlay:
  region: 0,6.59 0.5,7.456 -0.5,7.456
Mechanical 1:
  lines w0.05: -5.11,-7.08 -5.11,7.08 ; -2.221,-7.08 -2.221,7.08 ; -1.6,-7.08 -1.6,7.08 ; -1.169,-7.08 -1.169,7.08 ; -0.57,-5.65 -0.57,-4.51 ; -0.57,-5.65 -0.279,-5.359 ; -0.57,-5.65 0.57,-5.65 ; -0.57,-4.51 -0.279,-4.801 ; -0.57,-4.51 0.57,-4.51 ; -0.57,-0.57 -0.57,0.57 ; -0.57,-0.57 -0.279,-0.279 ; -0.57,-0.57 0.57,-0.57 ; -0.57,0.57 0.57,0.57 ; -0.57,0.57 -0.279,0.279 ; -0.57,4.51 -0.57,5.65 ; -0.57,4.51 -0.279,4.801 ; -0.57,4.51 0.57,4.51 ; -0.57,5.65 0.57,5.65 ; -0.57,5.65 -0.279,5.359 ; -0.279,-5.359 -0.279,-4.801 ; -0.279,-5.359 0.279,-5.359 ; -0.279,-4.801 0.279,-4.801 ; -0.279,-0.279 0.279,-0.279 ; -0.279,-0.279 -0.279,0.279 ; -0.279,0.279 0.279,0.279 ; -0.279,4.801 -0.279,5.359 ; -0.279,4.801 0.279,4.801 ; -0.279,5.359 0.279,5.359 ; 0.279,-5.359 0.279,-4.801 ; 0.279,-5.359 0.57,-5.65 ; 0.279,-4.801 0.57,-4.51 ; 0.279,-0.279 0.279,0.279 ; 0.279,-0.279 0.57,-0.57 ; 0.279,0.279 0.57,0.57 ; 0.279,4.801 0.279,5.359 ; 0.279,4.801 0.57,4.51 ; 0.279,5.359 0.57,5.65 ; 0.57,-5.65 0.57,-4.51 ; 0.57,-0.57 0.57,0.57 ; 0.57,4.51 0.57,5.65 ; -5.8,-7.08 -5.8,7.08 5.6,7.08 5.6,3.79 5,3.79 5,1.29 5.6,1.29 5.6,-7.08 -5.8,-7.08
Mechanical 15:
  lines w0.05: -5,-7.6 -5,7.6 6.2,7.6 6.2,-7.6 -5,-7.6
  lines w0.1: -0.5,0 0.5,0 ; 0,-0.5 0,0.5
3D body "SPOX 01032-1031.STEP": height 13.85, standoff -3.6, extent -5.8,-7.08 5.6,7.08

## MPW-3R [mm] "MPW Header, 3-Pin, 5.08 PItch, Right Angle"
height 9.6
pads (3):
  round 2.4 hole 1.8: 1(0,5.08) 2(0,0) 3(0,-5.08)
Top Overlay:
  region: 0,6.59 -0.5,7.456 0.5,7.456
  lines w0.2: 9.5,-7.8 3.3,-7.8 3.3,7.9 9.5,7.9
Mechanical 1:
  lines w0.05: 3.5,-5.65 1.5,-5.65 -0.54,-5.65 cw(c-0.54,-5.62) -0.57,-5.62 -0.57,-4.54 cw(c-0.54,-4.54) -0.54,-4.51 3.5,-4.51 ; 3.5,-0.57 1.5,-0.57 -0.54,-0.57 cw(c-0.54,-0.54) -0.57,-0.54 -0.57,0.54 cw(c-0.54,0.54) -0.54,0.57 3.5,0.57 ; 3.5,4.51 1.5,4.51 -0.54,4.51 cw(c-0.54,4.54) -0.57,4.54 -0.57,5.62 cw(c-0.54,5.62) -0.54,5.65 3.5,5.65 ; 8.4,-7.54 8.4,7.62 ; 11.513,-7.54 11.513,7.62 ; 12.072,-7.54 12.072,7.62 ; 15.398,-7.54 15.398,7.62 ; 15.474,-7.54 15.474,7.62 ; 16.026,-5.65 18.131,-5.65 ; 16.026,-4.51 18.131,-4.51 ; 16.026,-0.57 18.131,-0.57 ; 16.026,0.57 18.131,0.57 ; 16.026,4.51 18.131,4.51 ; 16.026,5.65 18.131,5.65 ; 18.131,-5.65 18.131,-4.51 ; 18.131,-5.65 18.65,-5.35 18.65,-4.81 18.131,-4.51 ; 18.131,-0.57 18.131,0.57 ; 18.131,-0.57 18.65,-0.27 18.65,0.27 18.131,0.57 ; 18.131,4.51 18.131,5.65 ; 18.131,4.51 18.65,4.81 18.65,5.35 18.131,5.65 ; 3.5,-7.485 ccw(c3.555,-7.485) 3.555,-7.54 15.971,-7.54 ccw(c15.971,-7.485) 16.026,-7.485 16.026,7.565 ccw(c15.971,7.565) 15.971,7.62 3.555,7.62 ccw(c3.555,7.565) 3.5,7.565 3.5,-7.485
Mechanical 15:
  lines w0.05: -1.5,-8.1 -1.5,8.2 18.9,8.2 18.9,-8.1 -1.5,-8.1
  lines w0.1: -0.5,0 0.5,0 ; 0,-0.5 0,0.5
3D body "CI5503P1H00.STEP": height 9.6, standoff -3.6, extent -0.57,-7.54 18.65,7.62